# Altium integrated library TI Data Converters Analog to Digital Converter.IntLib: 2198 symbols (part 87 of 164)
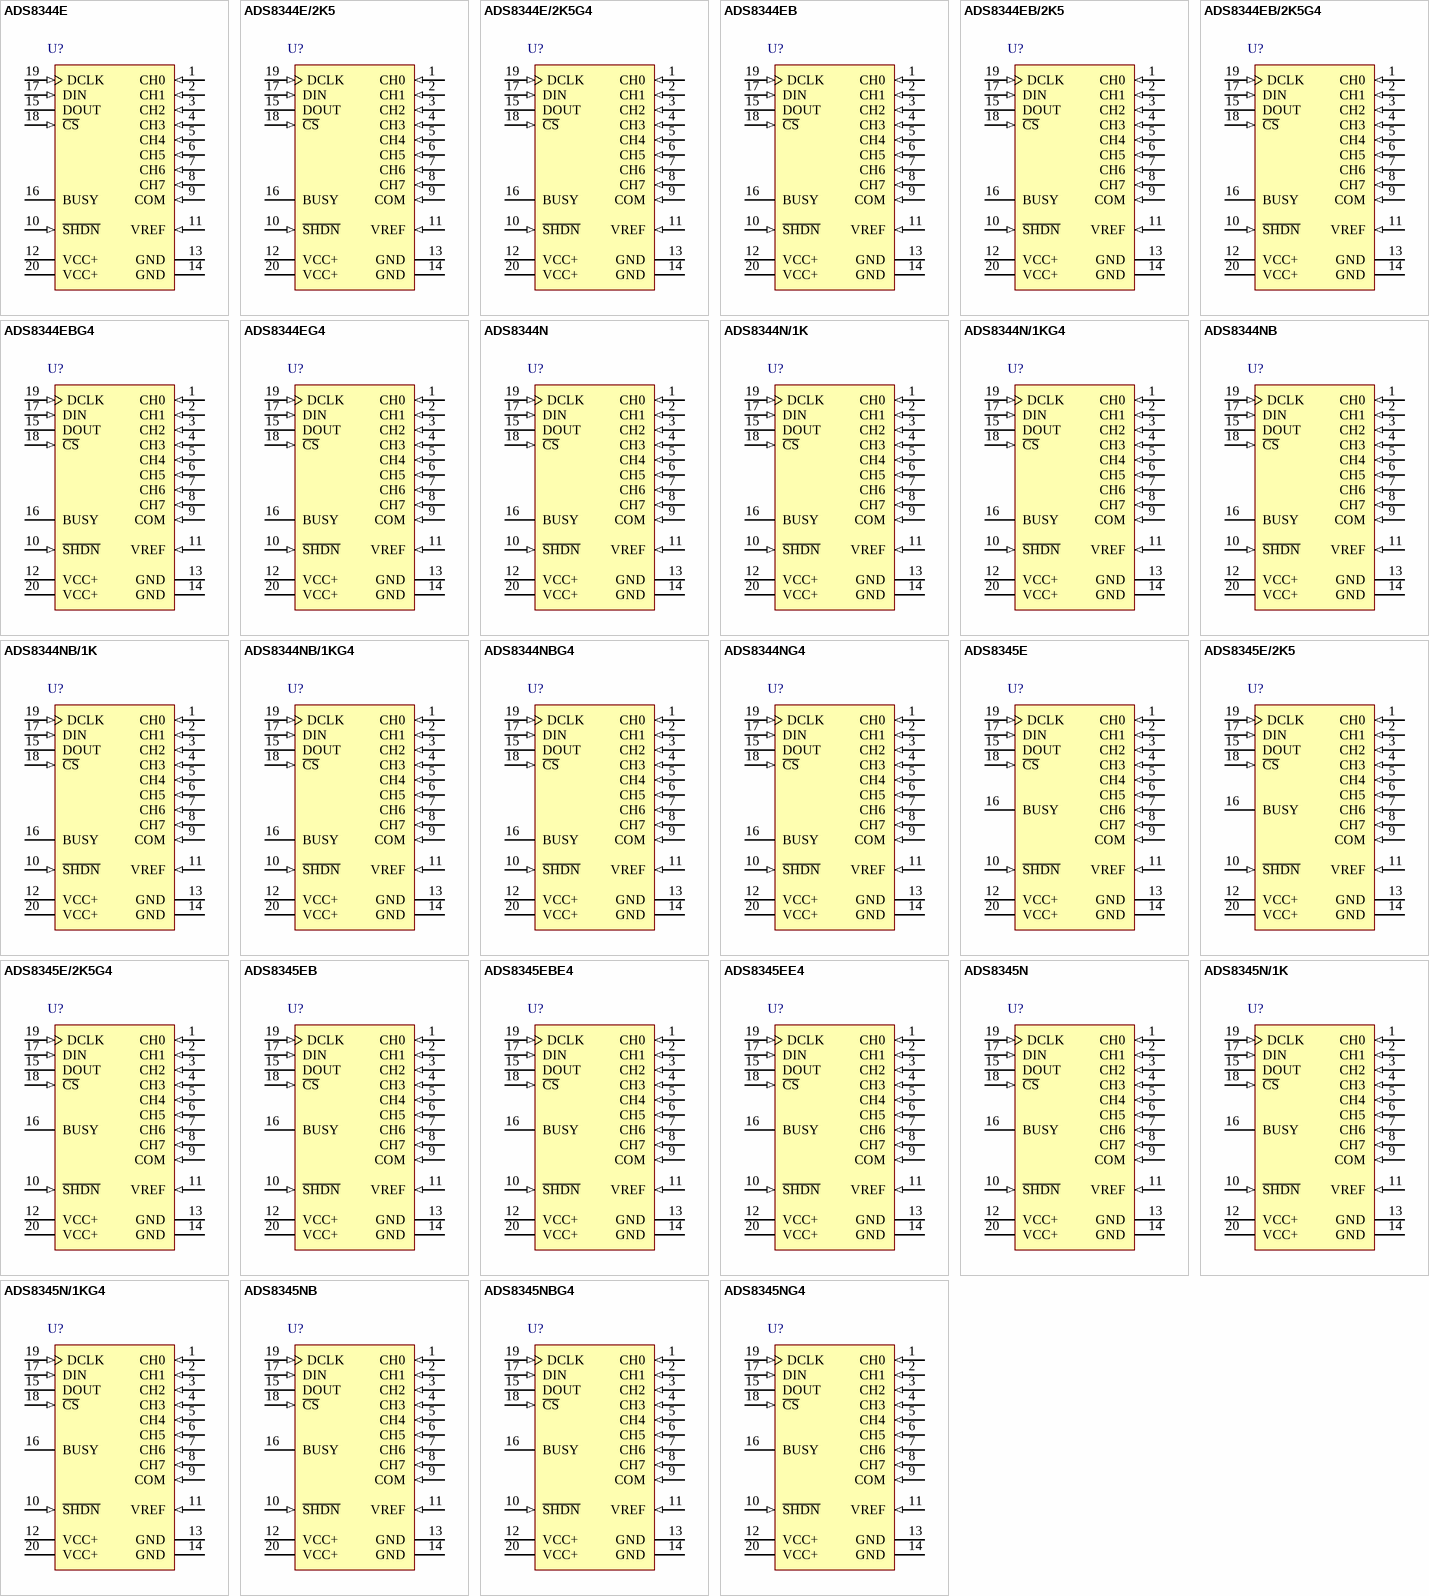
[diagram p212: symbols ADS8344E to ADS8345NG4]

## ADS8345N/1K
designator U?
16-Bit, 8-Channel Serial Output Sampling ADC, -40 to 85 degC, 20-pin SOP (DB20), Green (RoHS & no Sb/Br); Manufacturer: Texas Instruments; PartNumber: ADS8345N/1K; # Input Channels: 8; Analog Voltage AV/DD(Max)(V): 5.25; Analog Voltage AV/DD(Min)(V): 2.7; Architecture: SAR; Interface: Serial SPI; Resolution(Bits): 16; Sample Rate (max)(SPS): 100k; SFDR(dB): 98; SINAD(dB): 85; SubFamily: Precision ADC (<=10MSPS); DatasheetVersion: SBAS177C; PackageVersion: 4040065/E, 12/2001; PackageReference: DB20; PackageDescription: 20-Pin Plastic Small Outline, Body 5.3 x 7.2 mm, Pitch 0.65 mm; Supplier 1: Digi-Key; Supplier Part Number 1: ADS7817UB-ND; Digital Supply(Max)(V): 5.25; Digital Supply(Min)(V): 2.7; Eco-Plan: Green (RoHS & no Sb/Br); INL(Max)(+/-LSB): 8; Mounting Technology: Surface Mount; Code_JEDEC: MO-150; ComponentLink1Description: Manufacturer URL; ComponentLink1URL: http://www.ti.com/; ComponentLink2Description: Datasheet; ComponentLink2URL: http://www.ti.com/general/docs/lit/getliterature.tsp?genericPartNumber=ADS8345&fileType=pdf; ComponentLink3Description: Package Specification; ComponentLink3URL: http://www.ti.com/lit/ml/msso002e/msso002e.pdf
footprint TI-DB20_N (SOP, 20-Leads, Body 7.2x5.3mm, Pitch 0.65mm, IPC Medium Density)
footprint TI-DB20_L (SOP, 20-Leads, Body 7.2x5.3mm, Pitch 0.65mm, IPC High Density)
footprint TI-DB20_M (SOP, 20-Leads, Body 7.2x5.3mm, Pitch 0.65mm, IPC Low Density)
pins: 1 CH0 (in) "Analog Input Channel 0", 2 CH1 (in) "Analog Input Channel 1", 3 CH2 (in) "Analog Input Channel 2", 4 CH3 (in) "Analog Input Channel 3", 5 CH4 (in) "Analog Input Channel 4", 6 CH5 (in) "Analog Input Channel 5", 7 CH6 (in) "Analog Input Channel 6", 8 CH7 (in) "Analog Input Channel 7", 9 COM (in) "Common reference for analog inputs. This pin is typically connected to VREF.", 10 ~{SHDN} (in) "Shutdown. When LOW, the device enters a very low-power shutdown mode.", 11 VREF (in) "Voltage Reference Input. See the Electrical Characteristics Table for ranges.", 12 VCC+ (power) "Power Supply, 2.7V to 5.25V", 13 GND (power) "Ground", 14 GND (power) "Ground", 15 DOUT (hiz) "Serial Data Output. Data is shifted on the falling edge of DCLK. This output is high impedance when C\S\ is HIGH.", 16 BUSY (hiz) "Busy Output. Busy goes LOW when the DIN control bits are being read and also when the device is converting. The Output is high impedance when C\S\ is HIGH.", 17 DIN (in) "Serial Data Input. If C\S\ is LOW, data is latched on rising edge of DCLK.", 18 ~{CS} (in) "Chip Select Input; Active LOW. Data will not be clocked into DIN unless C\S\ is LOW. When C\S\ is HIGH, DOUT is high impedance.", 19 DCLK (in) "External Clock Input. The clock speed determines the conversion rate by the equation fDCLK = 24 x fSAMPLE.", 20 VCC+ (power) "Power Supply"

## ADS8345N/1KG4
designator U?
16-Bit, 8-Channel Serial Output Sampling ADC, -40 to 85 degC, 20-pin SOP (DB20), Green (RoHS & no Sb/Br); Manufacturer: Texas Instruments; PartNumber: ADS8345N/1KG4; # Input Channels: 8; Analog Voltage AV/DD(Max)(V): 5.25; Analog Voltage AV/DD(Min)(V): 2.7; Architecture: SAR; Interface: Serial SPI; Resolution(Bits): 16; Sample Rate (max)(SPS): 100k; SFDR(dB): 98; SINAD(dB): 85; SubFamily: Precision ADC (<=10MSPS); DatasheetVersion: SBAS177C; PackageVersion: 4040065/E, 12/2001; PackageReference: DB20; PackageDescription: 20-Pin Plastic Small Outline, Body 5.3 x 7.2 mm, Pitch 0.65 mm; Supplier 1: Digi-Key; Supplier Part Number 1: ADS7817UBG4-ND; Digital Supply(Max)(V): 5.25; Digital Supply(Min)(V): 2.7; Eco-Plan: Green (RoHS & no Sb/Br); INL(Max)(+/-LSB): 8; Mounting Technology: Surface Mount; Code_JEDEC: MO-150; ComponentLink1Description: Manufacturer URL; ComponentLink1URL: http://www.ti.com/; ComponentLink2Description: Datasheet; ComponentLink2URL: http://www.ti.com/general/docs/lit/getliterature.tsp?genericPartNumber=ADS8345&fileType=pdf; ComponentLink3Description: Package Specification; ComponentLink3URL: http://www.ti.com/lit/ml/msso002e/msso002e.pdf
footprint TI-DB20_N (SOP, 20-Leads, Body 7.2x5.3mm, Pitch 0.65mm, IPC Medium Density)
footprint TI-DB20_L (SOP, 20-Leads, Body 7.2x5.3mm, Pitch 0.65mm, IPC High Density)
footprint TI-DB20_M (SOP, 20-Leads, Body 7.2x5.3mm, Pitch 0.65mm, IPC Low Density)
pins: 1 CH0 (in) "Analog Input Channel 0", 2 CH1 (in) "Analog Input Channel 1", 3 CH2 (in) "Analog Input Channel 2", 4 CH3 (in) "Analog Input Channel 3", 5 CH4 (in) "Analog Input Channel 4", 6 CH5 (in) "Analog Input Channel 5", 7 CH6 (in) "Analog Input Channel 6", 8 CH7 (in) "Analog Input Channel 7", 9 COM (in) "Common reference for analog inputs. This pin is typically connected to VREF.", 10 ~{SHDN} (in) "Shutdown. When LOW, the device enters a very low-power shutdown mode.", 11 VREF (in) "Voltage Reference Input. See the Electrical Characteristics Table for ranges.", 12 VCC+ (power) "Power Supply, 2.7V to 5.25V", 13 GND (power) "Ground", 14 GND (power) "Ground", 15 DOUT (hiz) "Serial Data Output. Data is shifted on the falling edge of DCLK. This output is high impedance when C\S\ is HIGH.", 16 BUSY (hiz) "Busy Output. Busy goes LOW when the DIN control bits are being read and also when the device is converting. The Output is high impedance when C\S\ is HIGH.", 17 DIN (in) "Serial Data Input. If C\S\ is LOW, data is latched on rising edge of DCLK.", 18 ~{CS} (in) "Chip Select Input; Active LOW. Data will not be clocked into DIN unless C\S\ is LOW. When C\S\ is HIGH, DOUT is high impedance.", 19 DCLK (in) "External Clock Input. The clock speed determines the conversion rate by the equation fDCLK = 24 x fSAMPLE.", 20 VCC+ (power) "Power Supply"

## ADS8345NB
designator U?
16-Bit, 8-Channel Serial Output Sampling ADC, -40 to 85 degC, 20-pin SOP (DB20), Green (RoHS & no Sb/Br); Manufacturer: Texas Instruments; PartNumber: ADS8345NB; # Input Channels: 8; Analog Voltage AV/DD(Max)(V): 5.25; Analog Voltage AV/DD(Min)(V): 2.7; Architecture: SAR; INL(Max)(+/-LSB): 6; Interface: Serial SPI; Resolution(Bits): 16; Sample Rate (max)(SPS): 100k; SFDR(dB): 98; SINAD(dB): 85; SubFamily: Precision ADC (<=10MSPS); DatasheetVersion: SBAS177C; PackageVersion: 4040065/E, 12/2001; PackageReference: DB20; PackageDescription: 20-Pin Plastic Small Outline, Body 5.3 x 7.2 mm, Pitch 0.65 mm; Supplier 1: Digi-Key; Supplier Part Number 1: ADS7817UC-ND; Digital Supply(Max)(V): 5.25; Digital Supply(Min)(V): 2.7; Eco-Plan: Green (RoHS & no Sb/Br); Mounting Technology: Surface Mount; Code_JEDEC: MO-150; ComponentLink1Description: Manufacturer URL; ComponentLink1URL: http://www.ti.com/; ComponentLink2Description: Datasheet; ComponentLink2URL: http://www.ti.com/general/docs/lit/getliterature.tsp?genericPartNumber=ADS8345&fileType=pdf; ComponentLink3Description: Package Specification; ComponentLink3URL: http://www.ti.com/lit/ml/msso002e/msso002e.pdf
footprint TI-DB20_N (SOP, 20-Leads, Body 7.2x5.3mm, Pitch 0.65mm, IPC Medium Density)
footprint TI-DB20_L (SOP, 20-Leads, Body 7.2x5.3mm, Pitch 0.65mm, IPC High Density)
footprint TI-DB20_M (SOP, 20-Leads, Body 7.2x5.3mm, Pitch 0.65mm, IPC Low Density)
pins: 1 CH0 (in) "Analog Input Channel 0", 2 CH1 (in) "Analog Input Channel 1", 3 CH2 (in) "Analog Input Channel 2", 4 CH3 (in) "Analog Input Channel 3", 5 CH4 (in) "Analog Input Channel 4", 6 CH5 (in) "Analog Input Channel 5", 7 CH6 (in) "Analog Input Channel 6", 8 CH7 (in) "Analog Input Channel 7", 9 COM (in) "Common reference for analog inputs. This pin is typically connected to VREF.", 10 ~{SHDN} (in) "Shutdown. When LOW, the device enters a very low-power shutdown mode.", 11 VREF (in) "Voltage Reference Input. See the Electrical Characteristics Table for ranges.", 12 VCC+ (power) "Power Supply, 2.7V to 5.25V", 13 GND (power) "Ground", 14 GND (power) "Ground", 15 DOUT (hiz) "Serial Data Output. Data is shifted on the falling edge of DCLK. This output is high impedance when C\S\ is HIGH.", 16 BUSY (hiz) "Busy Output. Busy goes LOW when the DIN control bits are being read and also when the device is converting. The Output is high impedance when C\S\ is HIGH.", 17 DIN (in) "Serial Data Input. If C\S\ is LOW, data is latched on rising edge of DCLK.", 18 ~{CS} (in) "Chip Select Input; Active LOW. Data will not be clocked into DIN unless C\S\ is LOW. When C\S\ is HIGH, DOUT is high impedance.", 19 DCLK (in) "External Clock Input. The clock speed determines the conversion rate by the equation fDCLK = 24 x fSAMPLE.", 20 VCC+ (power) "Power Supply"

## ADS8345NBG4
designator U?
16-Bit, 8-Channel Serial Output Sampling ADC, -40 to 85 degC, 20-pin SOP (DB20), Green (RoHS & no Sb/Br); Manufacturer: Texas Instruments; PartNumber: ADS8345NBG4; # Input Channels: 8; Analog Voltage AV/DD(Max)(V): 5.25; Analog Voltage AV/DD(Min)(V): 2.7; Architecture: SAR; INL(Max)(+/-LSB): 6; Interface: Serial SPI; Resolution(Bits): 16; Sample Rate (max)(SPS): 100k; SFDR(dB): 98; SINAD(dB): 85; SubFamily: Precision ADC (<=10MSPS); DatasheetVersion: SBAS177C; PackageVersion: 4040065/E, 12/2001; PackageReference: DB20; PackageDescription: 20-Pin Plastic Small Outline, Body 5.3 x 7.2 mm, Pitch 0.65 mm; Supplier 1: Digi-Key; Supplier Part Number 1: ADS7817UC/2K5-ND; Digital Supply(Max)(V): 5.25; Digital Supply(Min)(V): 2.7; Eco-Plan: Green (RoHS & no Sb/Br); Mounting Technology: Surface Mount; Code_JEDEC: MO-150; ComponentLink1Description: Manufacturer URL; ComponentLink1URL: http://www.ti.com/; ComponentLink2Description: Datasheet; ComponentLink2URL: http://www.ti.com/general/docs/lit/getliterature.tsp?genericPartNumber=ADS8345&fileType=pdf; ComponentLink3Description: Package Specification; ComponentLink3URL: http://www.ti.com/lit/ml/msso002e/msso002e.pdf
footprint TI-DB20_N (SOP, 20-Leads, Body 7.2x5.3mm, Pitch 0.65mm, IPC Medium Density)
footprint TI-DB20_L (SOP, 20-Leads, Body 7.2x5.3mm, Pitch 0.65mm, IPC High Density)
footprint TI-DB20_M (SOP, 20-Leads, Body 7.2x5.3mm, Pitch 0.65mm, IPC Low Density)
pins: 1 CH0 (in) "Analog Input Channel 0", 2 CH1 (in) "Analog Input Channel 1", 3 CH2 (in) "Analog Input Channel 2", 4 CH3 (in) "Analog Input Channel 3", 5 CH4 (in) "Analog Input Channel 4", 6 CH5 (in) "Analog Input Channel 5", 7 CH6 (in) "Analog Input Channel 6", 8 CH7 (in) "Analog Input Channel 7", 9 COM (in) "Common reference for analog inputs. This pin is typically connected to VREF.", 10 ~{SHDN} (in) "Shutdown. When LOW, the device enters a very low-power shutdown mode.", 11 VREF (in) "Voltage Reference Input. See the Electrical Characteristics Table for ranges.", 12 VCC+ (power) "Power Supply, 2.7V to 5.25V", 13 GND (power) "Ground", 14 GND (power) "Ground", 15 DOUT (hiz) "Serial Data Output. Data is shifted on the falling edge of DCLK. This output is high impedance when C\S\ is HIGH.", 16 BUSY (hiz) "Busy Output. Busy goes LOW when the DIN control bits are being read and also when the device is converting. The Output is high impedance when C\S\ is HIGH.", 17 DIN (in) "Serial Data Input. If C\S\ is LOW, data is latched on rising edge of DCLK.", 18 ~{CS} (in) "Chip Select Input; Active LOW. Data will not be clocked into DIN unless C\S\ is LOW. When C\S\ is HIGH, DOUT is high impedance.", 19 DCLK (in) "External Clock Input. The clock speed determines the conversion rate by the equation fDCLK = 24 x fSAMPLE.", 20 VCC+ (power) "Power Supply"

## ADS8345NG4
designator U?
16-Bit, 8-Channel Serial Output Sampling ADC, -40 to 85 degC, 20-pin SOP (DB20), Green (RoHS & no Sb/Br); Manufacturer: Texas Instruments; PartNumber: ADS8345NG4; # Input Channels: 8; Analog Voltage AV/DD(Max)(V): 5.25; Analog Voltage AV/DD(Min)(V): 2.7; Architecture: SAR; INL(Max)(+/-LSB): 6; Interface: Serial SPI; Resolution(Bits): 16; Sample Rate (max)(SPS): 100k; SFDR(dB): 98; SINAD(dB): 85; SubFamily: Precision ADC (<=10MSPS); DatasheetVersion: SBAS177C; PackageVersion: 4040065/E, 12/2001; PackageReference: DB20; PackageDescription: 20-Pin Plastic Small Outline, Body 5.3 x 7.2 mm, Pitch 0.65 mm; Supplier 1: Digi-Key; Supplier Part Number 1: ADS7817UC/2K5G4-ND; Digital Supply(Max)(V): 5.25; Digital Supply(Min)(V): 2.7; Eco-Plan: Green (RoHS & no Sb/Br); Mounting Technology: Surface Mount; Code_JEDEC: MO-150; ComponentLink1Description: Manufacturer URL; ComponentLink1URL: http://www.ti.com/; ComponentLink2Description: Datasheet; ComponentLink2URL: http://www.ti.com/general/docs/lit/getliterature.tsp?genericPartNumber=ADS8345&fileType=pdf; ComponentLink3Description: Package Specification; ComponentLink3URL: http://www.ti.com/lit/ml/msso002e/msso002e.pdf
footprint TI-DB20_N (SOP, 20-Leads, Body 7.2x5.3mm, Pitch 0.65mm, IPC Medium Density)
footprint TI-DB20_L (SOP, 20-Leads, Body 7.2x5.3mm, Pitch 0.65mm, IPC High Density)
footprint TI-DB20_M (SOP, 20-Leads, Body 7.2x5.3mm, Pitch 0.65mm, IPC Low Density)
pins: 1 CH0 (in) "Analog Input Channel 0", 2 CH1 (in) "Analog Input Channel 1", 3 CH2 (in) "Analog Input Channel 2", 4 CH3 (in) "Analog Input Channel 3", 5 CH4 (in) "Analog Input Channel 4", 6 CH5 (in) "Analog Input Channel 5", 7 CH6 (in) "Analog Input Channel 6", 8 CH7 (in) "Analog Input Channel 7", 9 COM (in) "Common reference for analog inputs. This pin is typically connected to VREF.", 10 ~{SHDN} (in) "Shutdown. When LOW, the device enters a very low-power shutdown mode.", 11 VREF (in) "Voltage Reference Input. See the Electrical Characteristics Table for ranges.", 12 VCC+ (power) "Power Supply, 2.7V to 5.25V", 13 GND (power) "Ground", 14 GND (power) "Ground", 15 DOUT (hiz) "Serial Data Output. Data is shifted on the falling edge of DCLK. This output is high impedance when C\S\ is HIGH.", 16 BUSY (hiz) "Busy Output. Busy goes LOW when the DIN control bits are being read and also when the device is converting. The Output is high impedance when C\S\ is HIGH.", 17 DIN (in) "Serial Data Input. If C\S\ is LOW, data is latched on rising edge of DCLK.", 18 ~{CS} (in) "Chip Select Input; Active LOW. Data will not be clocked into DIN unless C\S\ is LOW. When C\S\ is HIGH, DOUT is high impedance.", 19 DCLK (in) "External Clock Input. The clock speed determines the conversion rate by the equation fDCLK = 24 x fSAMPLE.", 20 VCC+ (power) "Power Supply"

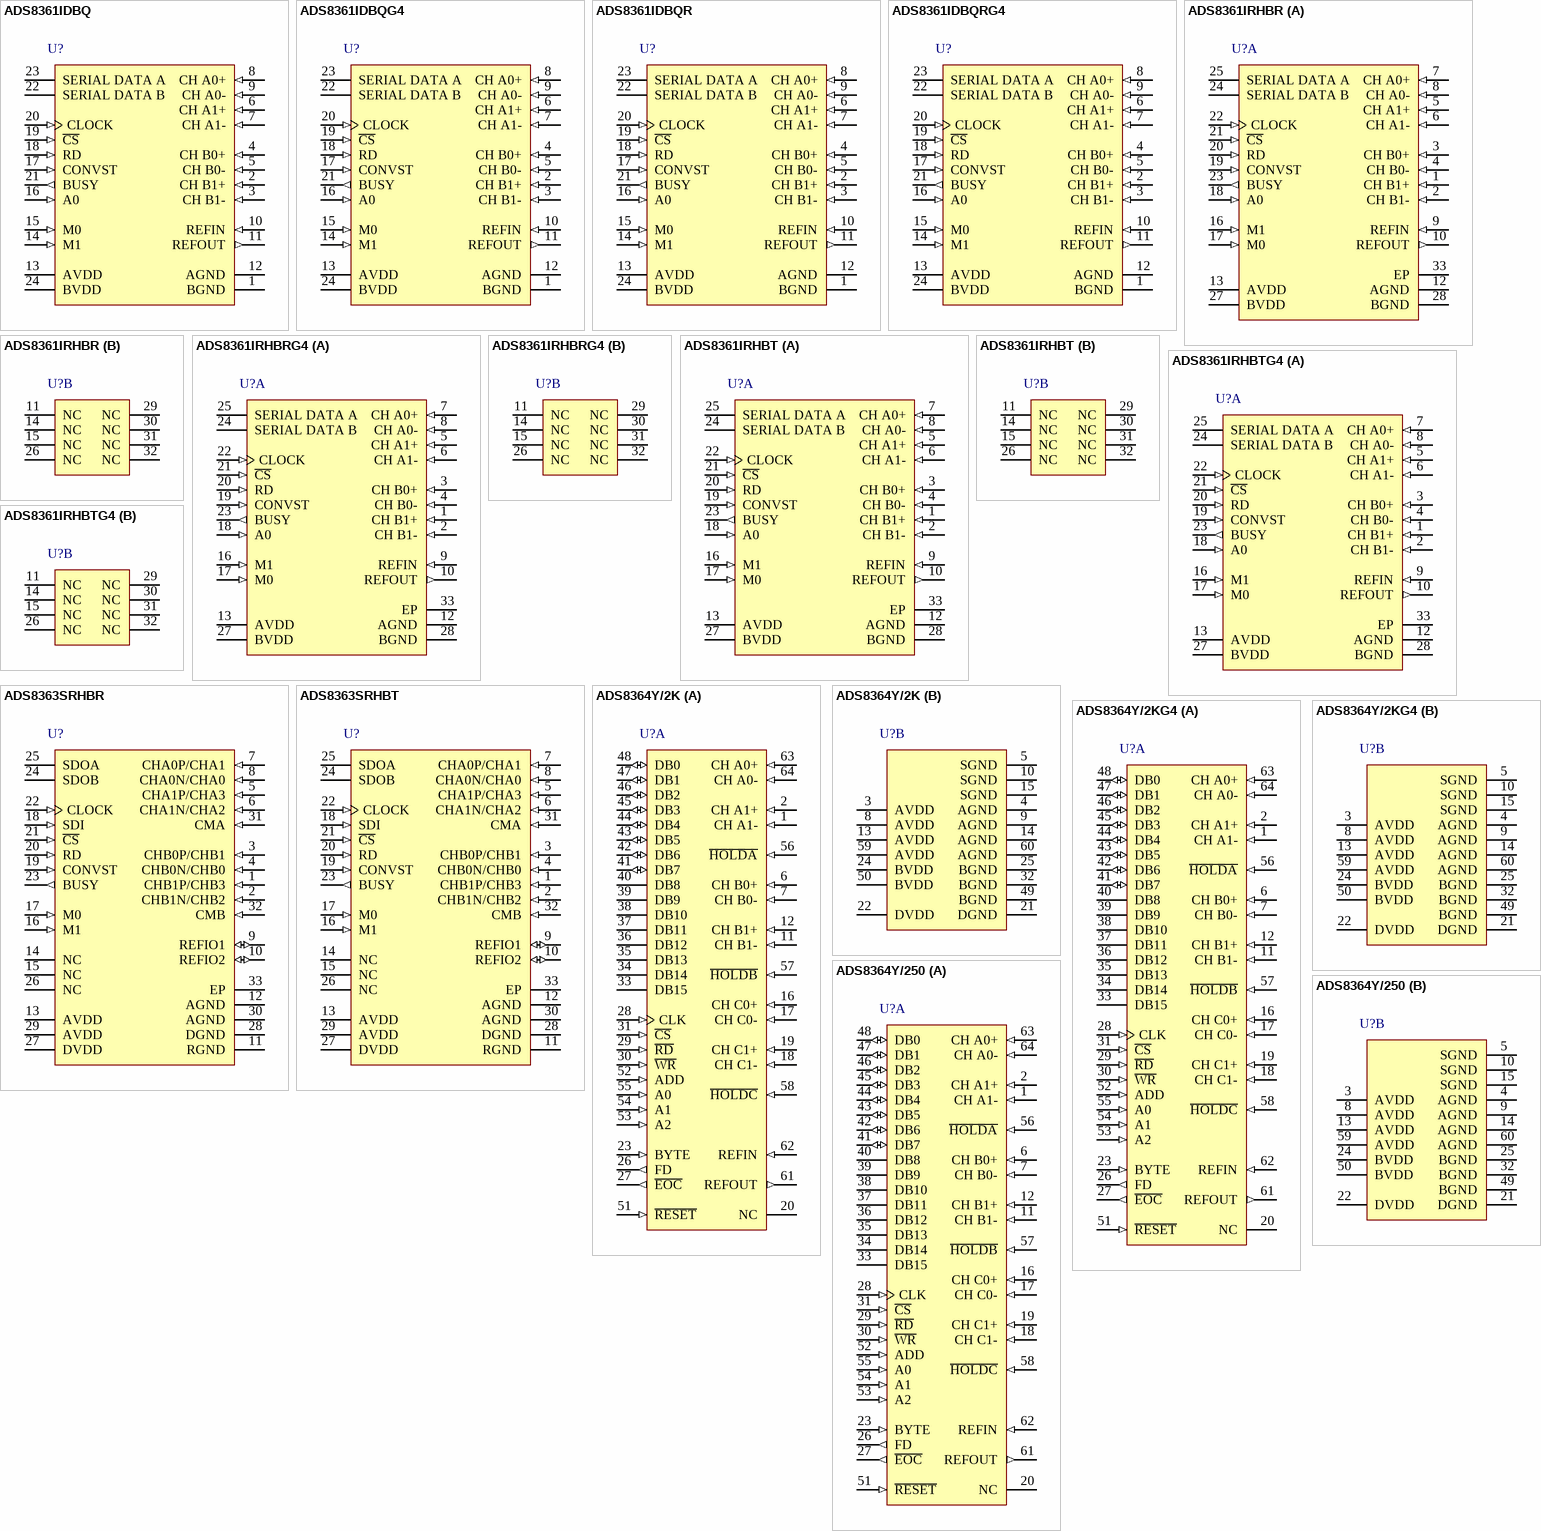
[diagram p77: symbols ADS8361IDBQ to ADS8364Y/250]

## ADS8361IDBQ
designator U?
16-Bit 500 kSPS ADC, 4 Channel, Serial Out, -40 to 125 degC, 24-pin SOP (DBQ24), Green (RoHS & no Sb/Br); Manufacturer: Texas Instruments; PartNumber: ADS8361IDBQ; # Input Channels: 4; Analog Voltage AV/DD(Max)(V): 5.25; Analog Voltage AV/DD(Min)(V): 4.75; Architecture: SAR; Digital Supply(Max)(V): 5.5; Digital Supply(Min)(V): 2.7; INL(Max)(+/-LSB): 8; Interface: Serial SPI; Resolution(Bits): 16; Sample Rate (max)(SPS): 500k; SFDR(dB): 94; SINAD(dB): 83; SubFamily: Precision ADC (<=10MSPS); DatasheetVersion: SBAS230E; PackageVersion: 4073301-4/H, 10/2008; PackageReference: DBQ24; PackageDescription: 24-Pin Plastic Small-Outline, Body 8.65 x 3.90 mm, Pitch 0.635 mm; Supplier 1: Digi-Key; Supplier Part Number 1: ADS7817UCG4-ND; Eco-Plan: Green (RoHS & no Sb/Br); SNR(dB): 83; Mounting Technology: Surface Mount; Code_JEDEC: MO-137; ComponentLink1Description: Manufacturer URL; ComponentLink1URL: http://www.ti.com/; ComponentLink2Description: Datasheet; ComponentLink2URL: http://www.ti.com/general/docs/lit/getliterature.tsp?genericPartNumber=ADS8361&fileType=pdf; ComponentLink3Description: Package Specification; ComponentLink3URL: http://www.ti.com/litv/pdf/mpds211a
footprint TI-DBQ24_N (SOP, 24-Leads, Body 8.65x6mm, Pitch 0.635mm, IPC Medium Density)
footprint TI-DBQ24_L (SOP, 24-Leads, Body 8.65x6mm, Pitch 0.635mm, IPC High Density)
footprint TI-DBQ24_M (SOP, 24-Leads, Body 8.65x6mm, Pitch 0.635mm, IPC Low Density)
pins: 1 BGND (power) "Digital I/O Ground. Connect directly to analog ground (pin 12).", 2 CH B1+ (in) "Noninverting Input Channel B1", 3 CH B1- (in) "Inverting Input Channel B1", 4 CH B0+ (in) "Noninverting Input Channel B0", 5 CH B0- (in) "Inverting Input Channel B0", 6 CH A1+ (in) "Noninverting Input Channel A1", 7 CH A1- (in) "Inverting Input Channel A1", 8 CH A0+ (in) "Noninverting Input Channel A0", 9 CH A0- (in) "Inverting Input Channel A0", 10 REFIN (in) "Reference Input", 11 REFOUT (out) "2.5V Reference Output", 12 AGND (power) "Analog Ground. Connect directly to digital ground (pin 1).", 13 AVDD (power) "Analog Power Supply, +5VDC. Decouple to analog ground with a 0.1uF ceramic capacitor and a 10uF tantalum capacitor.", 14 M1 (in) "Selects between the Serial Outputs. When M1 is LOW, both Serial Output A and Serial Output B are selected for data transfer. When M1 is HIGH, Serial output A is configured for both Channel A data and Channel B data; Serial (See Datasheet)", 15 M0 (in) "Selects between two-channel and four-channel operation. When M0 is LOW, two-channel operation is selected and operates in conjunction with A0. When A0 is HIGH, Channel A1 and Channel B1 are being converted. When A0 is LOW, (See Datasheet)", 16 A0 (in) "A0 operates in conjunction with M0. With M0 LOW and A0 HIGH, Channel A1 and Channel B1 are converted. With M0 LOW and A0 LOW, Channel A0 and Channel B0 are converted.", 17 CONVST (in) "Convert Start. When CONVST switches from LOW to HIGH, the device switches from the sample to hold mode, independent of the status of the external clock.", 18 RD (in) "Synchronization Pulse for the Serial Output.", 19 ~{CS} (in) "Chip Select. When LOW, the Serial Output A and Serial Output B outputs are active; when HIGH, the serial outputs are tri-stated.", 20 CLOCK (in) "An external CMOS-compatible clock can be applied to the CLOCK input to synchronize the conversion process to an external source. The CLOCK pin controls the sampling rate by the equation: fSAMPLE (max) = CLOCK/20.", 21 BUSY (out) "BUSY goes HIGH during a conversion and returns LOW after the third LSB has been transmitted on either the Serial A or Serial B output pin.", 22 SERIAL DATA B (hiz) "The Serial Output data word is comprised of channel information and 16 bits of data. In operation, data is valid on the falling edge of DCLOCK for 20 edges after the rising edge of RD.", 23 SERIAL DATA A (hiz) "The Serial Output data word is comprised of channel information and 16 bits of data. In operation, data is valid on the falling edge of DCLOCK for 20 edges after the rising edge of RD. When M1 is HIGH, both Channel A data (See Datasheet)", 24 BVDD (power) "Digital I/O Power Supply, 2.7V to 5.5V"

## ADS8361IDBQG4
designator U?
16-Bit 500 kSPS ADC, 4 Channel, Serial Out, -40 to 125 degC, 24-pin SOP (DBQ24), Green (RoHS & no Sb/Br); Manufacturer: Texas Instruments; PartNumber: ADS8361IDBQG4; # Input Channels: 4; Analog Voltage AV/DD(Max)(V): 5.25; Analog Voltage AV/DD(Min)(V): 4.75; Architecture: SAR; Digital Supply(Max)(V): 5.5; Digital Supply(Min)(V): 2.7; INL(Max)(+/-LSB): 8; Interface: Serial SPI; Resolution(Bits): 16; Sample Rate (max)(SPS): 500k; SFDR(dB): 94; SINAD(dB): 83; SubFamily: Precision ADC (<=10MSPS); DatasheetVersion: SBAS230E; PackageVersion: 4073301-4/H, 10/2008; PackageReference: DBQ24; PackageDescription: 24-Pin Plastic Small-Outline, Body 8.65 x 3.90 mm, Pitch 0.635 mm; Supplier 1: Digi-Key; Supplier Part Number 1: ADS7817UG4-ND; Eco-Plan: Green (RoHS & no Sb/Br); SNR(dB): 83; Mounting Technology: Surface Mount; Code_JEDEC: MO-137; ComponentLink1Description: Manufacturer URL; ComponentLink1URL: http://www.ti.com/; ComponentLink2Description: Datasheet; ComponentLink2URL: http://www.ti.com/general/docs/lit/getliterature.tsp?genericPartNumber=ADS8361&fileType=pdf; ComponentLink3Description: Package Specification; ComponentLink3URL: http://www.ti.com/litv/pdf/mpds211a
footprint TI-DBQ24_N (SOP, 24-Leads, Body 8.65x6mm, Pitch 0.635mm, IPC Medium Density)
footprint TI-DBQ24_L (SOP, 24-Leads, Body 8.65x6mm, Pitch 0.635mm, IPC High Density)
footprint TI-DBQ24_M (SOP, 24-Leads, Body 8.65x6mm, Pitch 0.635mm, IPC Low Density)
pins: 1 BGND (power) "Digital I/O Ground. Connect directly to analog ground (pin 12).", 2 CH B1+ (in) "Noninverting Input Channel B1", 3 CH B1- (in) "Inverting Input Channel B1", 4 CH B0+ (in) "Noninverting Input Channel B0", 5 CH B0- (in) "Inverting Input Channel B0", 6 CH A1+ (in) "Noninverting Input Channel A1", 7 CH A1- (in) "Inverting Input Channel A1", 8 CH A0+ (in) "Noninverting Input Channel A0", 9 CH A0- (in) "Inverting Input Channel A0", 10 REFIN (in) "Reference Input", 11 REFOUT (out) "2.5V Reference Output", 12 AGND (power) "Analog Ground. Connect directly to digital ground (pin 1).", 13 AVDD (power) "Analog Power Supply, +5VDC. Decouple to analog ground with a 0.1uF ceramic capacitor and a 10uF tantalum capacitor.", 14 M1 (in) "Selects between the Serial Outputs. When M1 is LOW, both Serial Output A and Serial Output B are selected for data transfer. When M1 is HIGH, Serial output A is configured for both Channel A data and Channel B data; Serial (See Datasheet)", 15 M0 (in) "Selects between two-channel and four-channel operation. When M0 is LOW, two-channel operation is selected and operates in conjunction with A0. When A0 is HIGH, Channel A1 and Channel B1 are being converted. When A0 is LOW, (See Datasheet)", 16 A0 (in) "A0 operates in conjunction with M0. With M0 LOW and A0 HIGH, Channel A1 and Channel B1 are converted. With M0 LOW and A0 LOW, Channel A0 and Channel B0 are converted.", 17 CONVST (in) "Convert Start. When CONVST switches from LOW to HIGH, the device switches from the sample to hold mode, independent of the status of the external clock.", 18 RD (in) "Synchronization Pulse for the Serial Output.", 19 ~{CS} (in) "Chip Select. When LOW, the Serial Output A and Serial Output B outputs are active; when HIGH, the serial outputs are tri-stated.", 20 CLOCK (in) "An external CMOS-compatible clock can be applied to the CLOCK input to synchronize the conversion process to an external source. The CLOCK pin controls the sampling rate by the equation: fSAMPLE (max) = CLOCK/20.", 21 BUSY (out) "BUSY goes HIGH during a conversion and returns LOW after the third LSB has been transmitted on either the Serial A or Serial B output pin.", 22 SERIAL DATA B (hiz) "The Serial Output data word is comprised of channel information and 16 bits of data. In operation, data is valid on the falling edge of DCLOCK for 20 edges after the rising edge of RD.", 23 SERIAL DATA A (hiz) "The Serial Output data word is comprised of channel information and 16 bits of data. In operation, data is valid on the falling edge of DCLOCK for 20 edges after the rising edge of RD. When M1 is HIGH, both Channel A data (See Datasheet)", 24 BVDD (power) "Digital I/O Power Supply, 2.7V to 5.5V"

## ADS8361IDBQR
designator U?
16-Bit 500 kSPS ADC, 4 Channel, Serial Out, -40 to 125 degC, 24-pin SOP (DBQ24), Green (RoHS & no Sb/Br); Manufacturer: Texas Instruments; PartNumber: ADS8361IDBQR; # Input Channels: 4; Analog Voltage AV/DD(Max)(V): 5.25; Analog Voltage AV/DD(Min)(V): 4.75; Architecture: SAR; Digital Supply(Max)(V): 5.5; Digital Supply(Min)(V): 2.7; INL(Max)(+/-LSB): 8; Interface: Serial SPI; Resolution(Bits): 16; Sample Rate (max)(SPS): 500k; SFDR(dB): 94; SINAD(dB): 83; SubFamily: Precision ADC (<=10MSPS); DatasheetVersion: SBAS230E; PackageVersion: 4073301-4/H, 10/2008; PackageReference: DBQ24; PackageDescription: 24-Pin Plastic Small-Outline, Body 8.65 x 3.90 mm, Pitch 0.635 mm; Supplier 1: Digi-Key; Supplier Part Number 1: 296-35561-5-ND; Eco-Plan: Green (RoHS & no Sb/Br); SNR(dB): 83; Mounting Technology: Surface Mount; Code_JEDEC: MO-137; ComponentLink1Description: Manufacturer URL; ComponentLink1URL: http://www.ti.com/; ComponentLink2Description: Datasheet; ComponentLink2URL: http://www.ti.com/general/docs/lit/getliterature.tsp?genericPartNumber=ADS8361&fileType=pdf; ComponentLink3Description: Package Specification; ComponentLink3URL: http://www.ti.com/litv/pdf/mpds211a
footprint TI-DBQ24_N (SOP, 24-Leads, Body 8.65x6mm, Pitch 0.635mm, IPC Medium Density)
footprint TI-DBQ24_L (SOP, 24-Leads, Body 8.65x6mm, Pitch 0.635mm, IPC High Density)
footprint TI-DBQ24_M (SOP, 24-Leads, Body 8.65x6mm, Pitch 0.635mm, IPC Low Density)
pins: 1 BGND (power) "Digital I/O Ground. Connect directly to analog ground (pin 12).", 2 CH B1+ (in) "Noninverting Input Channel B1", 3 CH B1- (in) "Inverting Input Channel B1", 4 CH B0+ (in) "Noninverting Input Channel B0", 5 CH B0- (in) "Inverting Input Channel B0", 6 CH A1+ (in) "Noninverting Input Channel A1", 7 CH A1- (in) "Inverting Input Channel A1", 8 CH A0+ (in) "Noninverting Input Channel A0", 9 CH A0- (in) "Inverting Input Channel A0", 10 REFIN (in) "Reference Input", 11 REFOUT (out) "2.5V Reference Output", 12 AGND (power) "Analog Ground. Connect directly to digital ground (pin 1).", 13 AVDD (power) "Analog Power Supply, +5VDC. Decouple to analog ground with a 0.1uF ceramic capacitor and a 10uF tantalum capacitor.", 14 M1 (in) "Selects between the Serial Outputs. When M1 is LOW, both Serial Output A and Serial Output B are selected for data transfer. When M1 is HIGH, Serial output A is configured for both Channel A data and Channel B data; Serial (See Datasheet)", 15 M0 (in) "Selects between two-channel and four-channel operation. When M0 is LOW, two-channel operation is selected and operates in conjunction with A0. When A0 is HIGH, Channel A1 and Channel B1 are being converted. When A0 is LOW, (See Datasheet)", 16 A0 (in) "A0 operates in conjunction with M0. With M0 LOW and A0 HIGH, Channel A1 and Channel B1 are converted. With M0 LOW and A0 LOW, Channel A0 and Channel B0 are converted.", 17 CONVST (in) "Convert Start. When CONVST switches from LOW to HIGH, the device switches from the sample to hold mode, independent of the status of the external clock.", 18 RD (in) "Synchronization Pulse for the Serial Output.", 19 ~{CS} (in) "Chip Select. When LOW, the Serial Output A and Serial Output B outputs are active; when HIGH, the serial outputs are tri-stated.", 20 CLOCK (in) "An external CMOS-compatible clock can be applied to the CLOCK input to synchronize the conversion process to an external source. The CLOCK pin controls the sampling rate by the equation: fSAMPLE (max) = CLOCK/20.", 21 BUSY (out) "BUSY goes HIGH during a conversion and returns LOW after the third LSB has been transmitted on either the Serial A or Serial B output pin.", 22 SERIAL DATA B (hiz) "The Serial Output data word is comprised of channel information and 16 bits of data. In operation, data is valid on the falling edge of DCLOCK for 20 edges after the rising edge of RD.", 23 SERIAL DATA A (hiz) "The Serial Output data word is comprised of channel information and 16 bits of data. In operation, data is valid on the falling edge of DCLOCK for 20 edges after the rising edge of RD. When M1 is HIGH, both Channel A data (See Datasheet)", 24 BVDD (power) "Digital I/O Power Supply, 2.7V to 5.5V"

## ADS8361IDBQRG4
designator U?
16-Bit 500 kSPS ADC, 4 Channel, Serial Out, -40 to 125 degC, 24-pin SOP (DBQ24), Green (RoHS & no Sb/Br); Manufacturer: Texas Instruments; PartNumber: ADS8361IDBQRG4; # Input Channels: 4; Analog Voltage AV/DD(Max)(V): 5.25; Analog Voltage AV/DD(Min)(V): 4.75; Architecture: SAR; Digital Supply(Max)(V): 5.5; Digital Supply(Min)(V): 2.7; INL(Max)(+/-LSB): 8; Interface: Serial SPI; Resolution(Bits): 16; Sample Rate (max)(SPS): 500k; SFDR(dB): 94; SINAD(dB): 83; SubFamily: Precision ADC (<=10MSPS); DatasheetVersion: SBAS230E; PackageVersion: 4073301-4/H, 10/2008; PackageReference: DBQ24; PackageDescription: 24-Pin Plastic Small-Outline, Body 8.65 x 3.90 mm, Pitch 0.635 mm; Supplier 1: Digi-Key; Supplier Part Number 1: ADS7813PB-ND; Eco-Plan: Green (RoHS & no Sb/Br); SNR(dB): 83; Mounting Technology: Surface Mount; Code_JEDEC: MO-137; ComponentLink1Description: Manufacturer URL; ComponentLink1URL: http://www.ti.com/; ComponentLink2Description: Datasheet; ComponentLink2URL: http://www.ti.com/general/docs/lit/getliterature.tsp?genericPartNumber=ADS8361&fileType=pdf; ComponentLink3Description: Package Specification; ComponentLink3URL: http://www.ti.com/litv/pdf/mpds211a
footprint TI-DBQ24_N (SOP, 24-Leads, Body 8.65x6mm, Pitch 0.635mm, IPC Medium Density)
footprint TI-DBQ24_L (SOP, 24-Leads, Body 8.65x6mm, Pitch 0.635mm, IPC High Density)
footprint TI-DBQ24_M (SOP, 24-Leads, Body 8.65x6mm, Pitch 0.635mm, IPC Low Density)
pins: 1 BGND (power) "Digital I/O Ground. Connect directly to analog ground (pin 12).", 2 CH B1+ (in) "Noninverting Input Channel B1", 3 CH B1- (in) "Inverting Input Channel B1", 4 CH B0+ (in) "Noninverting Input Channel B0", 5 CH B0- (in) "Inverting Input Channel B0", 6 CH A1+ (in) "Noninverting Input Channel A1", 7 CH A1- (in) "Inverting Input Channel A1", 8 CH A0+ (in) "Noninverting Input Channel A0", 9 CH A0- (in) "Inverting Input Channel A0", 10 REFIN (in) "Reference Input", 11 REFOUT (out) "2.5V Reference Output", 12 AGND (power) "Analog Ground. Connect directly to digital ground (pin 1).", 13 AVDD (power) "Analog Power Supply, +5VDC. Decouple to analog ground with a 0.1uF ceramic capacitor and a 10uF tantalum capacitor.", 14 M1 (in) "Selects between the Serial Outputs. When M1 is LOW, both Serial Output A and Serial Output B are selected for data transfer. When M1 is HIGH, Serial output A is configured for both Channel A data and Channel B data; Serial (See Datasheet)", 15 M0 (in) "Selects between two-channel and four-channel operation. When M0 is LOW, two-channel operation is selected and operates in conjunction with A0. When A0 is HIGH, Channel A1 and Channel B1 are being converted. When A0 is LOW, (See Datasheet)", 16 A0 (in) "A0 operates in conjunction with M0. With M0 LOW and A0 HIGH, Channel A1 and Channel B1 are converted. With M0 LOW and A0 LOW, Channel A0 and Channel B0 are converted.", 17 CONVST (in) "Convert Start. When CONVST switches from LOW to HIGH, the device switches from the sample to hold mode, independent of the status of the external clock.", 18 RD (in) "Synchronization Pulse for the Serial Output.", 19 ~{CS} (in) "Chip Select. When LOW, the Serial Output A and Serial Output B outputs are active; when HIGH, the serial outputs are tri-stated.", 20 CLOCK (in) "An external CMOS-compatible clock can be applied to the CLOCK input to synchronize the conversion process to an external source. The CLOCK pin controls the sampling rate by the equation: fSAMPLE (max) = CLOCK/20.", 21 BUSY (out) "BUSY goes HIGH during a conversion and returns LOW after the third LSB has been transmitted on either the Serial A or Serial B output pin.", 22 SERIAL DATA B (hiz) "The Serial Output data word is comprised of channel information and 16 bits of data. In operation, data is valid on the falling edge of DCLOCK for 20 edges after the rising edge of RD.", 23 SERIAL DATA A (hiz) "The Serial Output data word is comprised of channel information and 16 bits of data. In operation, data is valid on the falling edge of DCLOCK for 20 edges after the rising edge of RD. When M1 is HIGH, both Channel A data (See Datasheet)", 24 BVDD (power) "Digital I/O Power Supply, 2.7V to 5.5V"

## ADS8361IRHBR
designator U?
16-Bit 500 kSPS ADC, 4 Channel, Serial Out, -40 to 125 degC, 32-pin QFN (RHB32), Green (RoHS & no Sb/Br); Manufacturer: Texas Instruments; PartNumber: ADS8361IRHBR; # Input Channels: 4; Analog Voltage AV/DD(Max)(V): 5.25; Analog Voltage AV/DD(Min)(V): 4.75; Architecture: SAR; Digital Supply(Max)(V): 5.5; Digital Supply(Min)(V): 2.7; INL(Max)(+/-LSB): 8; Interface: Serial SPI; Resolution(Bits): 16; Sample Rate (max)(SPS): 500k; SFDR(dB): 94; SINAD(dB): 83; SubFamily: Precision ADC (<=10MSPS); DatasheetVersion: SBAS230E; PackageVersion: 4204326/D, 06/2011; PackageReference: RHB32-3150X3150TP; PackageDescription: 32-Pin Plastic Flat Pack, Body 5 x 5 mm, Pitch 0.5 mm; Supplier 1: Digi-Key; Supplier Part Number 1: ADS7813PBG4-ND; Eco-Plan: Green (RoHS & no Sb/Br); SNR(dB): 83; Mounting Technology: Surface Mount; Code_JEDEC: MO-220; ComponentLink1Description: Manufacturer URL; ComponentLink1URL: http://www.ti.com/; ComponentLink2Description: Datasheet; ComponentLink2URL: http://www.ti.com/general/docs/lit/getliterature.tsp?genericPartNumber=ADS8361&fileType=pdf; ComponentLink3Description: Package Specification; ComponentLink3URL: http://www.ti.com/lit/ml/mpqf130c/mpqf130c.pdf
footprint TI-RHB32-3150X3150TP_V (QFN, 32-Leads, Body 5x5mm, Pitch 0.5mm, Thermal Pad 3.15x3.15mm)
part A pins: 1 CH B1+ (in) "Noninverting Input Channel B1", 2 CH B1- (in) "Inverting Input Channel B1", 3 CH B0+ (in) "Noninverting Input Channel B0", 4 CH B0- (in) "Inverting Input Channel B0", 5 CH A1+ (in) "Noninverting Input Channel A1", 6 CH A1- (in) "Inverting Input Channel A1", 7 CH A0+ (in) "Noninverting Input Channel A0", 8 CH A0- (in) "Inverting Input Channel A0", 9 REFIN (in) "Reference Input", 10 REFOUT (out) "2.5V Reference Output", 12 AGND (power) "Analog Ground. Connect directly to digital ground (pin 1).", 13 AVDD (power) "Analog Power Supply, +5VDC. Decouple to analog ground with a 0.1uF ceramic capacitor and a 10uF tantalum capacitor.", 16 M1 (in) "Selects between the Serial Outputs. When M1 is LOW, both Serial Output A and Serial Output B are selected for data transfer. When M1 is HIGH, Serial output A is configured for both Channel A data and Channel B data; Serial (See Datasheet)", 17 M0 (in) "Selects between two-channel and four-channel operation. When M0 is LOW, two-channel operation is selected and operates in conjunction with A0. When A0 is HIGH, Channel A1 and Channel B1 are being converted. When A0 is LOW, (See Datasheet)", 18 A0 (in) "A0 operates in conjunction with M0. With M0 LOW and A0 HIGH, Channel A1 and Channel B1 are converted. With M0 LOW and A0 LOW, Channel A0 and Channel B0 are converted.", 19 CONVST (in) "Convert Start. When CONVST switches from LOW to HIGH, the device switches from the sample to hold mode, independent of the status of the external clock.", 20 RD (in) "Synchronization Pulse for the Serial Output.", 21 ~{CS} (in) "Chip Select. When LOW, the Serial Output A and Serial Output B outputs are active; when HIGH, the serial outputs are tri-stated.", 22 CLOCK (in) "An external CMOS-compatible clock can be applied to the CLOCK input to synchronize the conversion process to an external source. The CLOCK pin controls the sampling rate by the equation: fSAMPLE (max) = CLOCK/20.", 23 BUSY (out) "BUSY goes HIGH during a conversion and returns LOW after the third LSB has been transmitted on either the Serial A or Serial B output pin.", 24 SERIAL DATA B (hiz) "The Serial Output data word is comprised of channel information and 16 bits of data. In operation, data is valid on the falling edge of DCLOCK for 20 edges after the rising edge of RD.", 25 SERIAL DATA A (hiz) "The Serial Output data word is comprised of channel information and 16 bits of data. In operation, data is valid on the falling edge of DCLOCK for 20 edges after the rising edge of RD. When M1 is HIGH, both Channel A data (See Datasheet)", 27 BVDD (power) "Digital I/O Power Supply, 2.7V to 5.5V", 28 BGND (power) "Digital I/O Ground. Connect directly to analog ground (pin 12).", 33 EP "The thermal pad is internally connected to the substrate. This pad can be connected to the analog ground or left floating. Keep the thermal pad separate from the digital ground, if possible."
part B pins: 11 NC "Not Connected", 14 NC "Not Connected", 15 NC "Not Connected", 26 NC "Not Connected", 29 NC "Not Connected", 30 NC "Not Connected", 31 NC "Not Connected", 32 NC "Not Connected"

## ADS8361IRHBRG4
designator U?
16-Bit 500 kSPS ADC, 4 Channel, Serial Out, -40 to 125 degC, 32-pin QFN (RHB32), Green (RoHS & no Sb/Br); Manufacturer: Texas Instruments; PartNumber: ADS8361IRHBRG4; # Input Channels: 4; Analog Voltage AV/DD(Max)(V): 5.25; Analog Voltage AV/DD(Min)(V): 4.75; Architecture: SAR; Digital Supply(Max)(V): 5.5; Digital Supply(Min)(V): 2.7; INL(Max)(+/-LSB): 8; Interface: Serial SPI; Resolution(Bits): 16; Sample Rate (max)(SPS): 500k; SFDR(dB): 94; SINAD(dB): 83; SubFamily: Precision ADC (<=10MSPS); DatasheetVersion: SBAS230E; PackageVersion: 4204326/D, 06/2011; PackageReference: RHB32-3150X3150TP; PackageDescription: 32-Pin Plastic Flat Pack, Body 5 x 5 mm, Pitch 0.5 mm; Supplier 1: Digi-Key; Supplier Part Number 1: ADS7813PG4-ND; Eco-Plan: Green (RoHS & no Sb/Br); SNR(dB): 83; Mounting Technology: Surface Mount; Code_JEDEC: MO-220; ComponentLink1Description: Manufacturer URL; ComponentLink1URL: http://www.ti.com/; ComponentLink2Description: Datasheet; ComponentLink2URL: http://www.ti.com/general/docs/lit/getliterature.tsp?genericPartNumber=ADS8361&fileType=pdf; ComponentLink3Description: Package Specification; ComponentLink3URL: http://www.ti.com/lit/ml/mpqf130c/mpqf130c.pdf
footprint TI-RHB32-3150X3150TP_V (QFN, 32-Leads, Body 5x5mm, Pitch 0.5mm, Thermal Pad 3.15x3.15mm)
part A pins: 1 CH B1+ (in) "Noninverting Input Channel B1", 2 CH B1- (in) "Inverting Input Channel B1", 3 CH B0+ (in) "Noninverting Input Channel B0", 4 CH B0- (in) "Inverting Input Channel B0", 5 CH A1+ (in) "Noninverting Input Channel A1", 6 CH A1- (in) "Inverting Input Channel A1", 7 CH A0+ (in) "Noninverting Input Channel A0", 8 CH A0- (in) "Inverting Input Channel A0", 9 REFIN (in) "Reference Input", 10 REFOUT (out) "2.5V Reference Output", 12 AGND (power) "Analog Ground. Connect directly to digital ground (pin 1).", 13 AVDD (power) "Analog Power Supply, +5VDC. Decouple to analog ground with a 0.1uF ceramic capacitor and a 10uF tantalum capacitor.", 16 M1 (in) "Selects between the Serial Outputs. When M1 is LOW, both Serial Output A and Serial Output B are selected for data transfer. When M1 is HIGH, Serial output A is configured for both Channel A data and Channel B data; Serial (See Datasheet)", 17 M0 (in) "Selects between two-channel and four-channel operation. When M0 is LOW, two-channel operation is selected and operates in conjunction with A0. When A0 is HIGH, Channel A1 and Channel B1 are being converted. When A0 is LOW, (See Datasheet)", 18 A0 (in) "A0 operates in conjunction with M0. With M0 LOW and A0 HIGH, Channel A1 and Channel B1 are converted. With M0 LOW and A0 LOW, Channel A0 and Channel B0 are converted.", 19 CONVST (in) "Convert Start. When CONVST switches from LOW to HIGH, the device switches from the sample to hold mode, independent of the status of the external clock.", 20 RD (in) "Synchronization Pulse for the Serial Output.", 21 ~{CS} (in) "Chip Select. When LOW, the Serial Output A and Serial Output B outputs are active; when HIGH, the serial outputs are tri-stated.", 22 CLOCK (in) "An external CMOS-compatible clock can be applied to the CLOCK input to synchronize the conversion process to an external source. The CLOCK pin controls the sampling rate by the equation: fSAMPLE (max) = CLOCK/20.", 23 BUSY (out) "BUSY goes HIGH during a conversion and returns LOW after the third LSB has been transmitted on either the Serial A or Serial B output pin.", 24 SERIAL DATA B (hiz) "The Serial Output data word is comprised of channel information and 16 bits of data. In operation, data is valid on the falling edge of DCLOCK for 20 edges after the rising edge of RD.", 25 SERIAL DATA A (hiz) "The Serial Output data word is comprised of channel information and 16 bits of data. In operation, data is valid on the falling edge of DCLOCK for 20 edges after the rising edge of RD. When M1 is HIGH, both Channel A data (See Datasheet)", 27 BVDD (power) "Digital I/O Power Supply, 2.7V to 5.5V", 28 BGND (power) "Digital I/O Ground. Connect directly to analog ground (pin 12).", 33 EP "The thermal pad is internally connected to the substrate. This pad can be connected to the analog ground or left floating. Keep the thermal pad separate from the digital ground, if possible."
part B pins: 11 NC "Not Connected", 14 NC "Not Connected", 15 NC "Not Connected", 26 NC "Not Connected", 29 NC "Not Connected", 30 NC "Not Connected", 31 NC "Not Connected", 32 NC "Not Connected"

## ADS8361IRHBT
designator U?
16-Bit 500 kSPS ADC, 4 Channel, Serial Out, -40 to 125 degC, 32-pin QFN (RHB32), Green (RoHS & no Sb/Br); Manufacturer: Texas Instruments; PartNumber: ADS8361IRHBT; # Input Channels: 4; Analog Voltage AV/DD(Max)(V): 5.25; Analog Voltage AV/DD(Min)(V): 4.75; Architecture: SAR; Digital Supply(Max)(V): 5.5; Digital Supply(Min)(V): 2.7; INL(Max)(+/-LSB): 8; Interface: Serial SPI; Resolution(Bits): 16; Sample Rate (max)(SPS): 500k; SFDR(dB): 94; SINAD(dB): 83; SubFamily: Precision ADC (<=10MSPS); DatasheetVersion: SBAS230E; PackageVersion: 4204326/D, 06/2011; PackageReference: RHB32-3150X3150TP; PackageDescription: 32-Pin Plastic Flat Pack, Body 5 x 5 mm, Pitch 0.5 mm; Supplier 1: Digi-Key; Supplier Part Number 1: ADS7813U-ND; Eco-Plan: Green (RoHS & no Sb/Br); SNR(dB): 83; Mounting Technology: Surface Mount; Code_JEDEC: MO-220; ComponentLink1Description: Manufacturer URL; ComponentLink1URL: http://www.ti.com/; ComponentLink2Description: Datasheet; ComponentLink2URL: http://www.ti.com/general/docs/lit/getliterature.tsp?genericPartNumber=ADS8361&fileType=pdf; ComponentLink3Description: Package Specification; ComponentLink3URL: http://www.ti.com/lit/ml/mpqf130c/mpqf130c.pdf
footprint TI-RHB32-3150X3150TP_V (QFN, 32-Leads, Body 5x5mm, Pitch 0.5mm, Thermal Pad 3.15x3.15mm)
part A pins: 1 CH B1+ (in) "Noninverting Input Channel B1", 2 CH B1- (in) "Inverting Input Channel B1", 3 CH B0+ (in) "Noninverting Input Channel B0", 4 CH B0- (in) "Inverting Input Channel B0", 5 CH A1+ (in) "Noninverting Input Channel A1", 6 CH A1- (in) "Inverting Input Channel A1", 7 CH A0+ (in) "Noninverting Input Channel A0", 8 CH A0- (in) "Inverting Input Channel A0", 9 REFIN (in) "Reference Input", 10 REFOUT (out) "2.5V Reference Output", 12 AGND (power) "Analog Ground. Connect directly to digital ground (pin 1).", 13 AVDD (power) "Analog Power Supply, +5VDC. Decouple to analog ground with a 0.1uF ceramic capacitor and a 10uF tantalum capacitor.", 16 M1 (in) "Selects between the Serial Outputs. When M1 is LOW, both Serial Output A and Serial Output B are selected for data transfer. When M1 is HIGH, Serial output A is configured for both Channel A data and Channel B data; Serial (See Datasheet)", 17 M0 (in) "Selects between two-channel and four-channel operation. When M0 is LOW, two-channel operation is selected and operates in conjunction with A0. When A0 is HIGH, Channel A1 and Channel B1 are being converted. When A0 is LOW, (See Datasheet)", 18 A0 (in) "A0 operates in conjunction with M0. With M0 LOW and A0 HIGH, Channel A1 and Channel B1 are converted. With M0 LOW and A0 LOW, Channel A0 and Channel B0 are converted.", 19 CONVST (in) "Convert Start. When CONVST switches from LOW to HIGH, the device switches from the sample to hold mode, independent of the status of the external clock.", 20 RD (in) "Synchronization Pulse for the Serial Output.", 21 ~{CS} (in) "Chip Select. When LOW, the Serial Output A and Serial Output B outputs are active; when HIGH, the serial outputs are tri-stated.", 22 CLOCK (in) "An external CMOS-compatible clock can be applied to the CLOCK input to synchronize the conversion process to an external source. The CLOCK pin controls the sampling rate by the equation: fSAMPLE (max) = CLOCK/20.", 23 BUSY (out) "BUSY goes HIGH during a conversion and returns LOW after the third LSB has been transmitted on either the Serial A or Serial B output pin.", 24 SERIAL DATA B (hiz) "The Serial Output data word is comprised of channel information and 16 bits of data. In operation, data is valid on the falling edge of DCLOCK for 20 edges after the rising edge of RD.", 25 SERIAL DATA A (hiz) "The Serial Output data word is comprised of channel information and 16 bits of data. In operation, data is valid on the falling edge of DCLOCK for 20 edges after the rising edge of RD. When M1 is HIGH, both Channel A data (See Datasheet)", 27 BVDD (power) "Digital I/O Power Supply, 2.7V to 5.5V", 28 BGND (power) "Digital I/O Ground. Connect directly to analog ground (pin 12).", 33 EP "The thermal pad is internally connected to the substrate. This pad can be connected to the analog ground or left floating. Keep the thermal pad separate from the digital ground, if possible."
part B pins: 11 NC "Not Connected", 14 NC "Not Connected", 15 NC "Not Connected", 26 NC "Not Connected", 29 NC "Not Connected", 30 NC "Not Connected", 31 NC "Not Connected", 32 NC "Not Connected"

## ADS8361IRHBTG4
designator U?
16-Bit 500 kSPS ADC, 4 Channel, Serial Out, -40 to 125 degC, 32-pin QFN (RHB32), Green (RoHS & no Sb/Br); Manufacturer: Texas Instruments; PartNumber: ADS8361IRHBTG4; # Input Channels: 4; Analog Voltage AV/DD(Max)(V): 5.25; Analog Voltage AV/DD(Min)(V): 4.75; Architecture: SAR; Digital Supply(Max)(V): 5.5; Digital Supply(Min)(V): 2.7; INL(Max)(+/-LSB): 8; Interface: Serial SPI; Resolution(Bits): 16; Sample Rate (max)(SPS): 500k; SFDR(dB): 94; SINAD(dB): 83; SubFamily: Precision ADC (<=10MSPS); DatasheetVersion: SBAS230E; PackageVersion: 4204326/D, 06/2011; PackageReference: RHB32-3150X3150TP; PackageDescription: 32-Pin Plastic Flat Pack, Body 5 x 5 mm, Pitch 0.5 mm; Supplier 1: Digi-Key; Supplier Part Number 1: ADS7813U/1K-ND; Eco-Plan: Green (RoHS & no Sb/Br); SNR(dB): 83; Mounting Technology: Surface Mount; Code_JEDEC: MO-220; ComponentLink1Description: Manufacturer URL; ComponentLink1URL: http://www.ti.com/; ComponentLink2Description: Datasheet; ComponentLink2URL: http://www.ti.com/general/docs/lit/getliterature.tsp?genericPartNumber=ADS8361&fileType=pdf; ComponentLink3Description: Package Specification; ComponentLink3URL: http://www.ti.com/lit/ml/mpqf130c/mpqf130c.pdf
footprint TI-RHB32-3150X3150TP_V (QFN, 32-Leads, Body 5x5mm, Pitch 0.5mm, Thermal Pad 3.15x3.15mm)
part A pins: 1 CH B1+ (in) "Noninverting Input Channel B1", 2 CH B1- (in) "Inverting Input Channel B1", 3 CH B0+ (in) "Noninverting Input Channel B0", 4 CH B0- (in) "Inverting Input Channel B0", 5 CH A1+ (in) "Noninverting Input Channel A1", 6 CH A1- (in) "Inverting Input Channel A1", 7 CH A0+ (in) "Noninverting Input Channel A0", 8 CH A0- (in) "Inverting Input Channel A0", 9 REFIN (in) "Reference Input", 10 REFOUT (out) "2.5V Reference Output", 12 AGND (power) "Analog Ground. Connect directly to digital ground (pin 1).", 13 AVDD (power) "Analog Power Supply, +5VDC. Decouple to analog ground with a 0.1uF ceramic capacitor and a 10uF tantalum capacitor.", 16 M1 (in) "Selects between the Serial Outputs. When M1 is LOW, both Serial Output A and Serial Output B are selected for data transfer. When M1 is HIGH, Serial output A is configured for both Channel A data and Channel B data; Serial (See Datasheet)", 17 M0 (in) "Selects between two-channel and four-channel operation. When M0 is LOW, two-channel operation is selected and operates in conjunction with A0. When A0 is HIGH, Channel A1 and Channel B1 are being converted. When A0 is LOW, (See Datasheet)", 18 A0 (in) "A0 operates in conjunction with M0. With M0 LOW and A0 HIGH, Channel A1 and Channel B1 are converted. With M0 LOW and A0 LOW, Channel A0 and Channel B0 are converted.", 19 CONVST (in) "Convert Start. When CONVST switches from LOW to HIGH, the device switches from the sample to hold mode, independent of the status of the external clock.", 20 RD (in) "Synchronization Pulse for the Serial Output.", 21 ~{CS} (in) "Chip Select. When LOW, the Serial Output A and Serial Output B outputs are active; when HIGH, the serial outputs are tri-stated.", 22 CLOCK (in) "An external CMOS-compatible clock can be applied to the CLOCK input to synchronize the conversion process to an external source. The CLOCK pin controls the sampling rate by the equation: fSAMPLE (max) = CLOCK/20.", 23 BUSY (out) "BUSY goes HIGH during a conversion and returns LOW after the third LSB has been transmitted on either the Serial A or Serial B output pin.", 24 SERIAL DATA B (hiz) "The Serial Output data word is comprised of channel information and 16 bits of data. In operation, data is valid on the falling edge of DCLOCK for 20 edges after the rising edge of RD.", 25 SERIAL DATA A (hiz) "The Serial Output data word is comprised of channel information and 16 bits of data. In operation, data is valid on the falling edge of DCLOCK for 20 edges after the rising edge of RD. When M1 is HIGH, both Channel A data (See Datasheet)", 27 BVDD (power) "Digital I/O Power Supply, 2.7V to 5.5V", 28 BGND (power) "Digital I/O Ground. Connect directly to analog ground (pin 12).", 33 EP "The thermal pad is internally connected to the substrate. This pad can be connected to the analog ground or left floating. Keep the thermal pad separate from the digital ground, if possible."
part B pins: 11 NC "Not Connected", 14 NC "Not Connected", 15 NC "Not Connected", 26 NC "Not Connected", 29 NC "Not Connected", 30 NC "Not Connected", 31 NC "Not Connected", 32 NC "Not Connected"